# Altium footprint library Conn_CNC_Tech_3220-10-0100-00_eec_MFG.PcbLib: 1 footprints
Each footprint in its own frame and in the unit in brackets; x right, y up, seen from the top. Pads: shape width x height; smd on the part's side, far side on the other; paste and mask are expansions set on the pad; w line width, h text height; cw(c..) or ccw(c..) is an arc to the next point about the centre after c.
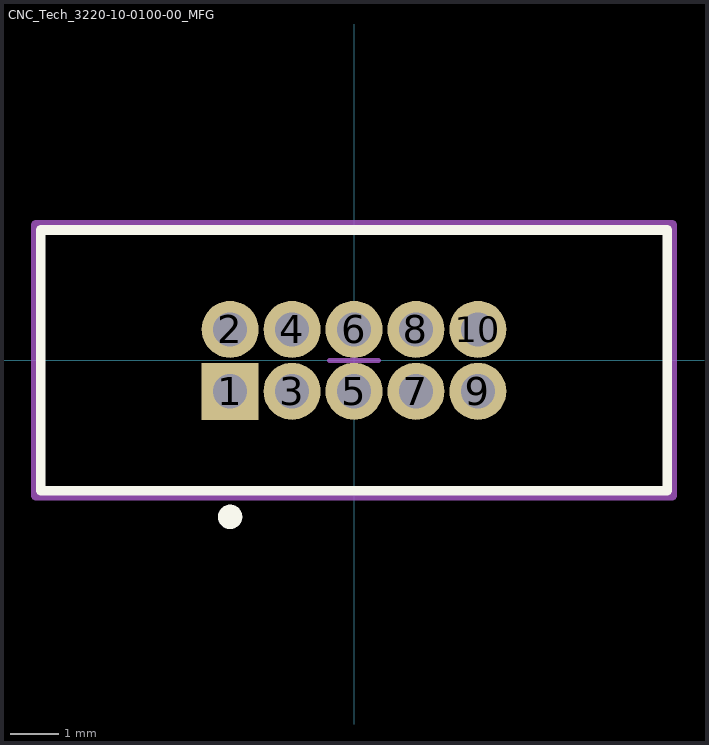
[diagram p0: the footprint, top view; thin cyan lines are the x and y axes]

## CNC_Tech_3220-10-0100-00_MFG [mm]
pads (10):
  rect 1.17x1.17 hole 0.7 paste-1000 mask+0: 1(-2.54,-0.635)
  round 1.17 hole 0.7 paste-1000 mask+0: 2(-2.54,0.635) 3(-1.27,-0.635) 4(-1.27,0.635) 5(0,-0.635) 6(0,0.635) 7(1.27,-0.635) 8(1.27,0.635) 9(2.54,-0.635) 10(2.54,0.635)
Top Overlay:
  circle w0.25: c-2.54,-3.21 r0.125
  lines w0.2: -6.425,-2.675 6.425,-2.675 6.425,2.675 -6.425,2.675 -6.425,-2.675
Mechanical 10:
  lines w0.2: -6.525,-2.775 6.525,-2.775 6.525,2.775 -6.525,2.775 -6.525,-2.775
  text ".Designator" at 0,0 h1
Mechanical 12:
  lines w0.15: -6.425,-2.675 6.425,-2.675 6.425,2.675 -6.425,2.675 -6.425,-2.675
Mechanical 15:
  lines w0.1: -0.5,0 0.5,0 ; 0,-0.5 0,0.5
  lines w0.2: -6.525,-2.775 6.525,-2.775 6.525,2.775 -6.525,2.775 -6.525,-2.775
3D body "Conn_CNC_Tech_3220-10-0100-00_eec.STEP": height 0.25, standoff 0, extent -6.525,-2.775 6.525,2.775